# Altium footprint library net_tie_1.PcbLib: 1 footprints
Each footprint in its own frame and in the unit in brackets; x right, y up, seen from the top. Pads: shape width x height; smd on the part's side, far side on the other; paste and mask are expansions set on the pad; w line width, h text height; cw(c..) or ccw(c..) is an arc to the next point about the centre after c.
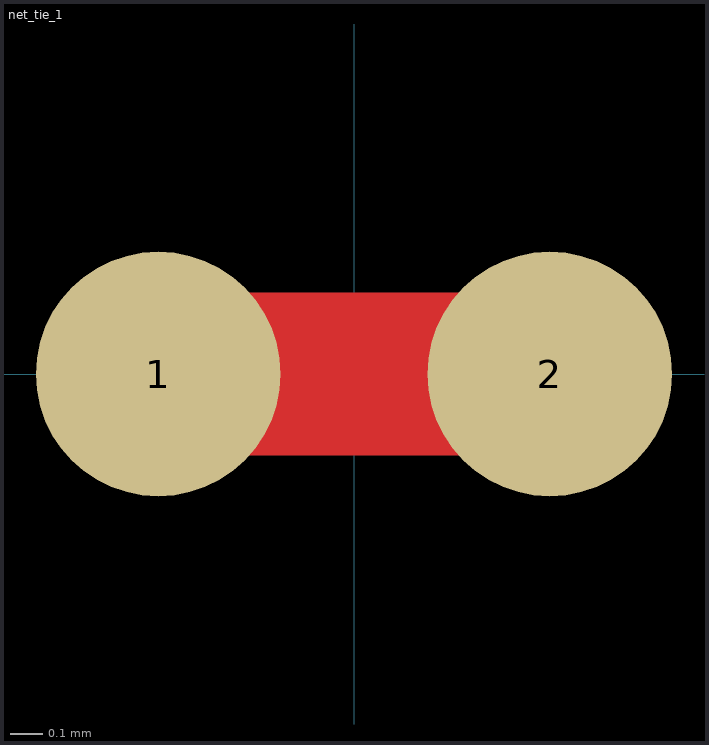
[diagram p0: the footprint, top view; thin cyan lines are the x and y axes]

## net_tie_1 [mm] "Net Tie"
pads (2):
  round 0.75 smd mask+0.102: 1(-0.6,0) 2(0.6,0)
Top Layer:
  lines w0.5: -0.6,0 0.6,0